# EAGLE library part AD8801 (library analog-devices)
ANALOG DEVICES
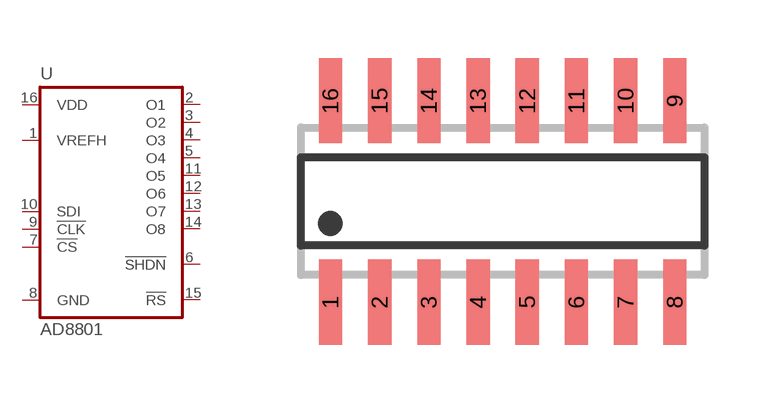
[diagram p14: symbol with the pads of SO16; footprint SO16]

Designator prefix U

## AD8801  [SO16]
1  VREFH  in
2  O1  out
3  O2  out
4  O3  out
5  O4  out
6  !SHDN!  in
7  !CS!  in
8  GND  pwr
9  !CLK!  in
10  SDI  in
11  O5  out
12  O6  out
13  O7  out
14  O8  out
15  !RS!  in
16  VDD  pwr

## Footprint SO16 (pad centres in mm)
SMALL OUTLINE INTEGRATED CIRCUIT body 3.9 mm/JEDEC MS-012AC
smd 0.6 x 2.2: 1 -4.445,-2.6; 2 -3.175,-2.6; 3 -1.905,-2.6; 4 -0.635,-2.6; 5 0.635,-2.6; 6 1.905,-2.6; 7 3.175,-2.6; 8 4.445,-2.6; 9 4.445,2.6; 10 3.175,2.6; 11 1.905,2.6; 12 0.635,2.6; 13 -0.635,2.6; 14 -1.905,2.6; 15 -3.175,2.6; 16 -4.445,2.6